# EAGLE library part 615008138321 (library WR-MJ)
WR-MJ Cat 3 Modular Jacks – THT Characteristics Shieldingless and Shielded with EMI-Spring option Optional LEDs in various sequences Vertical and Horizontal orientation Stacked and assembled configurations Tray Packaging Properties PoE++ Compatible up to 100W (IEEE 802.3bt) UL and cULus-Certified UL94-V0 insulator material Ethernet Category 3 – Category 5 under conditions Applications Networks Internet of Things mart Buildings <https://www.we-online.com/components/media/o863419v209%20multi-WR-MJTH-615002138421.jpg> Details see: www.we-online.com/en/components/products/WR_MJ_MODULAR_JACKS_THT <www.we-online.com/catalog/WR_MJ_MODULAR_JACKS_THT/?utm_source=eagle_model&utm_medium=description_link&utm_campaign=eisos_eagle> Updated by Ella Wu 2023-06-27 2023 (C) Würth Elektronik
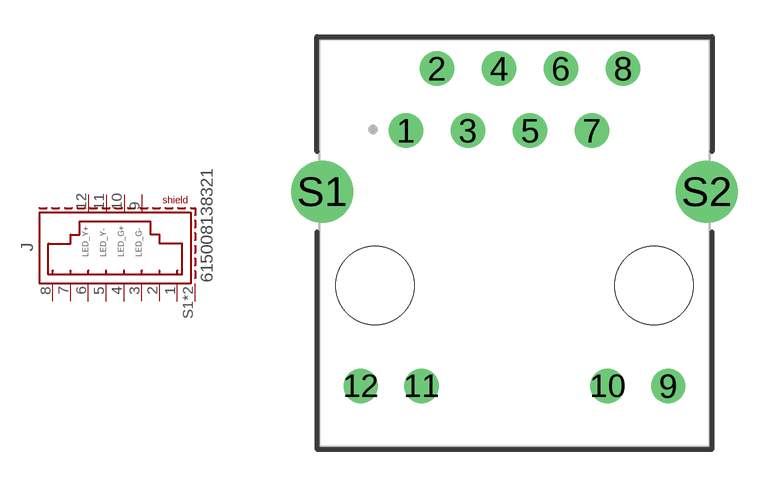
[diagram p6: symbol with the pads of 615008138321; footprint 615008138321]

Designator prefix J

## 615008138321 (APPLICATION-SYSTEM: CAT 3; DATASHEET-URL: https://www.we-online.com/redexpert/spec/615008138321?ae; EMI: No; LED: yellow-green; MOUNT: THT; PART-NUMBER: 615008138321; SIZE: Vertical; VALUE: 615008138321; XPXC: 8P8C)  [615008138321]
1  1  pas
2  2  pas
3  3  pas
4  4  pas
5  5  pas
6  6  pas
7  7  pas
8  8  pas
9  G-  pas
10  G+  pas
11  Y-  pas
12  Y+  pas
S1  SHIELD  pas
S2  SHIELD  pas

## Footprint 615008138321 (pad centres in mm)
WR-MJ Modular Jack Vertical Shielded 8P8C w. LED, 8 pins
drill 0.9: 1 -4.445,4.6; 2 -3.175,7.14; 3 -1.905,4.6; 4 -0.635,7.14; 5 0.635,4.6; 6 1.905,7.14; 7 3.175,4.6; 8 4.445,7.14; 9 6.3,-5.86; 10 3.81,-5.86; 11 -3.81,-5.86; 12 -6.3,-5.86
drill 1.7: S1 -7.875,2.1; S2 7.875,2.1
hole 3.2 at 5.715,-1.75
hole 3.2 at -5.715,-1.75